# EAGLE library part D9-1AS (library DIODE)
8 DIODES SIL, common anode (single gate)
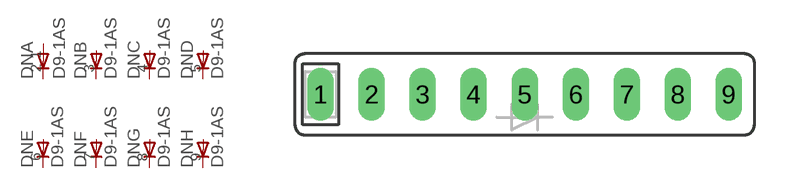
[diagram p4: symbol with the pads of SIL09A; footprint SIL09A]

Designator prefix DN; gates A=DN1 B=DNA C=DNA D=DNA E=DNA F=DNA G=DNA H=DNA

## D9-1AS  [SIL09A]
1  A:A  pas
2  A:C  pas
3  B:C  pas
4  C:C  pas
5  D:C  pas
6  E:C  pas
7  F:C  pas
8  G:C  pas
9  H:C  pas

## Footprint SIL09A (pad centres in mm)
8 DIODES single in line 8 diodes with common anode
drill 0.813 long: 1 -10.16,0; 2 -7.62,0; 3 -5.08,0; 4 -2.54,0; 5 0,0; 6 2.54,0; 7 5.08,0; 8 7.62,0; 9 10.16,0